# Altium footprint library ET4207_DEBUG.PcbLib: 11 footprints
Each footprint in its own frame and in the unit in brackets; x right, y up, seen from the top. Pads: shape width x height; smd on the part's side, far side on the other; paste and mask are expansions set on the pad; w line width, h text height; cw(c..) or ccw(c..) is an arc to the next point about the centre after c.
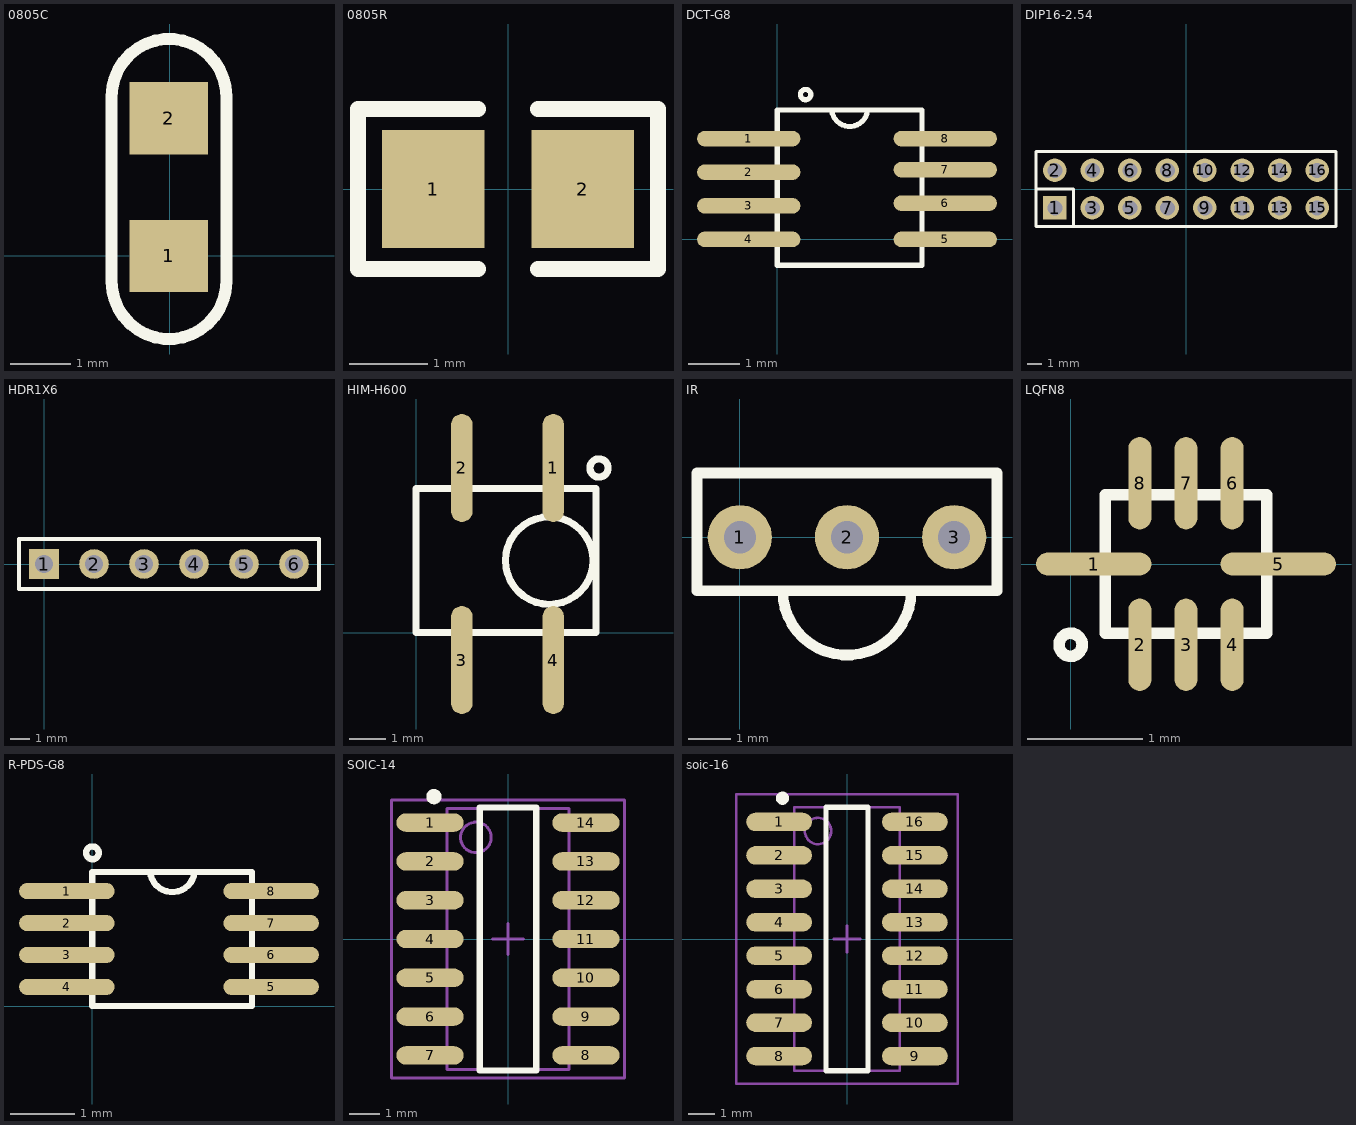
[diagram p0: the footprints below, top view; thin cyan lines are the x and y axes]

## 0805C [mm]
pads (2):
  rect 1.3x1.2 smd: 1(-0.019,-0.004) 2(-0.019,2.282)
Top Overlay:
  lines w0.2: -0.966,-0.431 ccw(c-0.016,-0.431) 0.934,-0.431 0.934,2.644 ccw(c-0.016,2.644) -0.966,2.644 -0.966,-0.431

## 0805R [mm] "0805带丝印"
height 1.1
pads (2):
  rect 1.3x1.5 smd: 1(-0.95,0) 2(0.95,0)
Top Overlay:
  lines w0.2: -0.381,-1.016 -1.905,-1.016 -1.905,1.016 -0.381,1.016 ; 0.381,-1.016 1.905,-1.016 1.905,1.016 0.381,1.016
3D body "0805R.STEP": height 0.5, standoff 0, extent -1,-0.625 1,0.625

## DCT-G8 [mm]
pads (8):
  oval 2x0.3 smd: 1(-0.55,1.95) 2(-0.55,1.3) 3(-0.55,0.65) 4(-0.55,0) 5(3.25,0) 6(3.25,0.7) 7(3.25,1.35) 8(3.25,1.95)
Top Overlay:
  circle w0.1: c0.55,2.8 r0.1
  lines w0.1: 1.055,2.5 ccw(c1.402,2.534) 1.75,2.5 ; 0,-0.5 0,2.5 2.8,2.5 2.8,-0.5 0,-0.5

## DIP16-2.54 [mil]
pads (16):
  rect 62x62 hole 40: 1(-350,-50)
  round 62 hole 40: 2(-350,50) 3(-250,-50) 4(-250,50) 5(-150,-50) 6(-150,50) 7(-50,-50) 8(-50,50) 9(50,-50) 10(50,50) 11(150,-50) 12(150,50) 13(250,-50) 14(250,50) 15(350,-50) 16(350,50)
Top Overlay:
  lines w8: -400,0 -300,0 -300,-100 ; -400,-100 -400,100 400,100 400,-100 -400,-100

## HDR1X6 [mm] "Connector; Header; 6 Position"
pads (6):
  rect 1.5x1.5 hole 0.9: 1(0,0)
  round 1.5 hole 0.9: 2(2.54,0) 3(5.08,0) 4(7.62,0) 5(10.16,0) 6(12.7,0)
Top Overlay:
  lines w0.2: -1.27,-1.27 -1.27,1.27 13.97,1.27 13.97,-1.27 -1.27,-1.27

## HIM-H600 [mm]
pads (4):
  oval 0.6x3 smd: 1(3.81,4.572) 2(1.27,4.572) 3(1.27,-0.762) 4(3.81,-0.762)
Top Overlay:
  circle w0.2: c3.7,2 r1.217
  circle w0.2: c5.08,4.572 r0.254
  lines w0.2: 0,0 0,4 5,4 5,0 0,0

## IR [mil]
pads (3):
  round 60 hole 30: 1(0,0) 2(100,0) 3(200,0)
Top Overlay:
  lines w10: 40,-50 ccw(c100,-50) 160,-50 ; -40,-50 240,-50 240,60 -40,60 -40,-50

## LQFN8 [mm]
pads (8):
  oval 1x0.2 smd: 1(0.2,0) 5(1.8,0)
  oval 0.2x0.8 smd: 2(0.6,-0.7) 3(1,-0.7) 4(1.4,-0.7) 6(1.4,0.7) 7(1,0.7) 8(0.6,0.7)
Top Overlay:
  circle w0.1: c0,-0.7 r0.1
  lines w0.1: 0.3,-0.6 1.7,-0.6 1.7,0.6 0.3,0.6 0.3,-0.6

## R-PDS-G8 [mm]
pads (8):
  oval 1.5x0.25 smd: 1(-0.4,1.8) 2(-0.4,1.3) 3(-0.4,0.8) 4(-0.4,0.3) 5(2.8,0.3) 6(2.8,0.8) 7(2.8,1.3) 8(2.8,1.8)
Top Overlay:
  circle w0.1: c0,2.4 r0.1
  lines w0.1: 0.905,2.1 ccw(c1.252,2.134) 1.6,2.1 ; 0,0 2.5,0 2.5,2.1 0,2.1 0,0

## SOIC-14 [mm] "SOP, 14-Leads,"
height 1.75
pads (14):
  oval 2.2x0.6 smd: 1(-2.552,3.81) 2(-2.552,2.54) 3(-2.552,1.27) 4(-2.552,0) 5(-2.552,-1.27) 6(-2.552,-2.54) 7(-2.552,-3.81) 8(2.552,-3.81) 9(2.552,-2.54) 10(2.552,-1.27) 11(2.552,0) 12(2.552,1.27) 13(2.552,2.54) 14(2.552,3.81)
Top Overlay:
  circle w0.25: c-2.425,4.66 r0.125
  lines w0.2: -0.925,-4.3 0.925,-4.3 0.925,4.3 -0.925,4.3 -0.925,-4.3
Mechanical 13:
  circle w0.1: c-1.05,3.325 r0.5
  lines w0.1: -2,-4.275 2,-4.275 2,4.275 -2,4.275 -2,-4.275
Mechanical 15:
  lines w0.1: -0.5,0 0.5,0 ; 0,-0.5 0,0.5 ; -3.81,-4.55 3.81,-4.55 3.81,4.55 -3.81,4.55 -3.81,-4.55
3D body "SW3DPS-SO-14 (PIC16F684)-DEFAULT.STEP": height 1.55, standoff -0.05, extent -2.997,-4.345 2.993,4.345

## soic-16 [mm]
height 1.91
pads (16):
  oval 2.5x0.7 smd: 1(-2.577,4.445) 2(-2.577,3.175) 3(-2.577,1.905) 4(-2.577,0.635) 5(-2.577,-0.635) 6(-2.577,-1.905) 7(-2.577,-3.175) 8(-2.577,-4.445) 9(2.577,-4.445) 10(2.577,-3.175) 11(2.577,-1.905) 12(2.577,-0.635) 13(2.577,0.635) 14(2.577,1.905) 15(2.577,3.175) 16(2.577,4.445)
Top Overlay:
  circle w0.25: c-2.45,5.345 r0.125
  lines w0.2: -0.8,-5 0.8,-5 0.8,5 -0.8,5 -0.8,-5
Mechanical 13:
  circle w0.1: c-1.1,4.1 r0.5
  lines w0.1: -2,-5 2,-5 2,5 -2,5 -2,-5
Mechanical 15:
  lines w0.1: -0.5,0 0.5,0 ; 0,-0.5 0,0.5 ; -4.2,-5.5 4.2,-5.5 4.2,5.5 -4.2,5.5 -4.2,-5.5
3D body "User Library-SOIC16-150.STEP": height 1.75, standoff 0, extent -2.879,-4.923 2.921,4.877